# Altium schematic symbol library HW_ADHERENT_SYSCTRL_R1_L1.SchLib: 521 symbols (part 1 of 8)
Pins are listed as number, name and electrical type; pins without a type are passive.

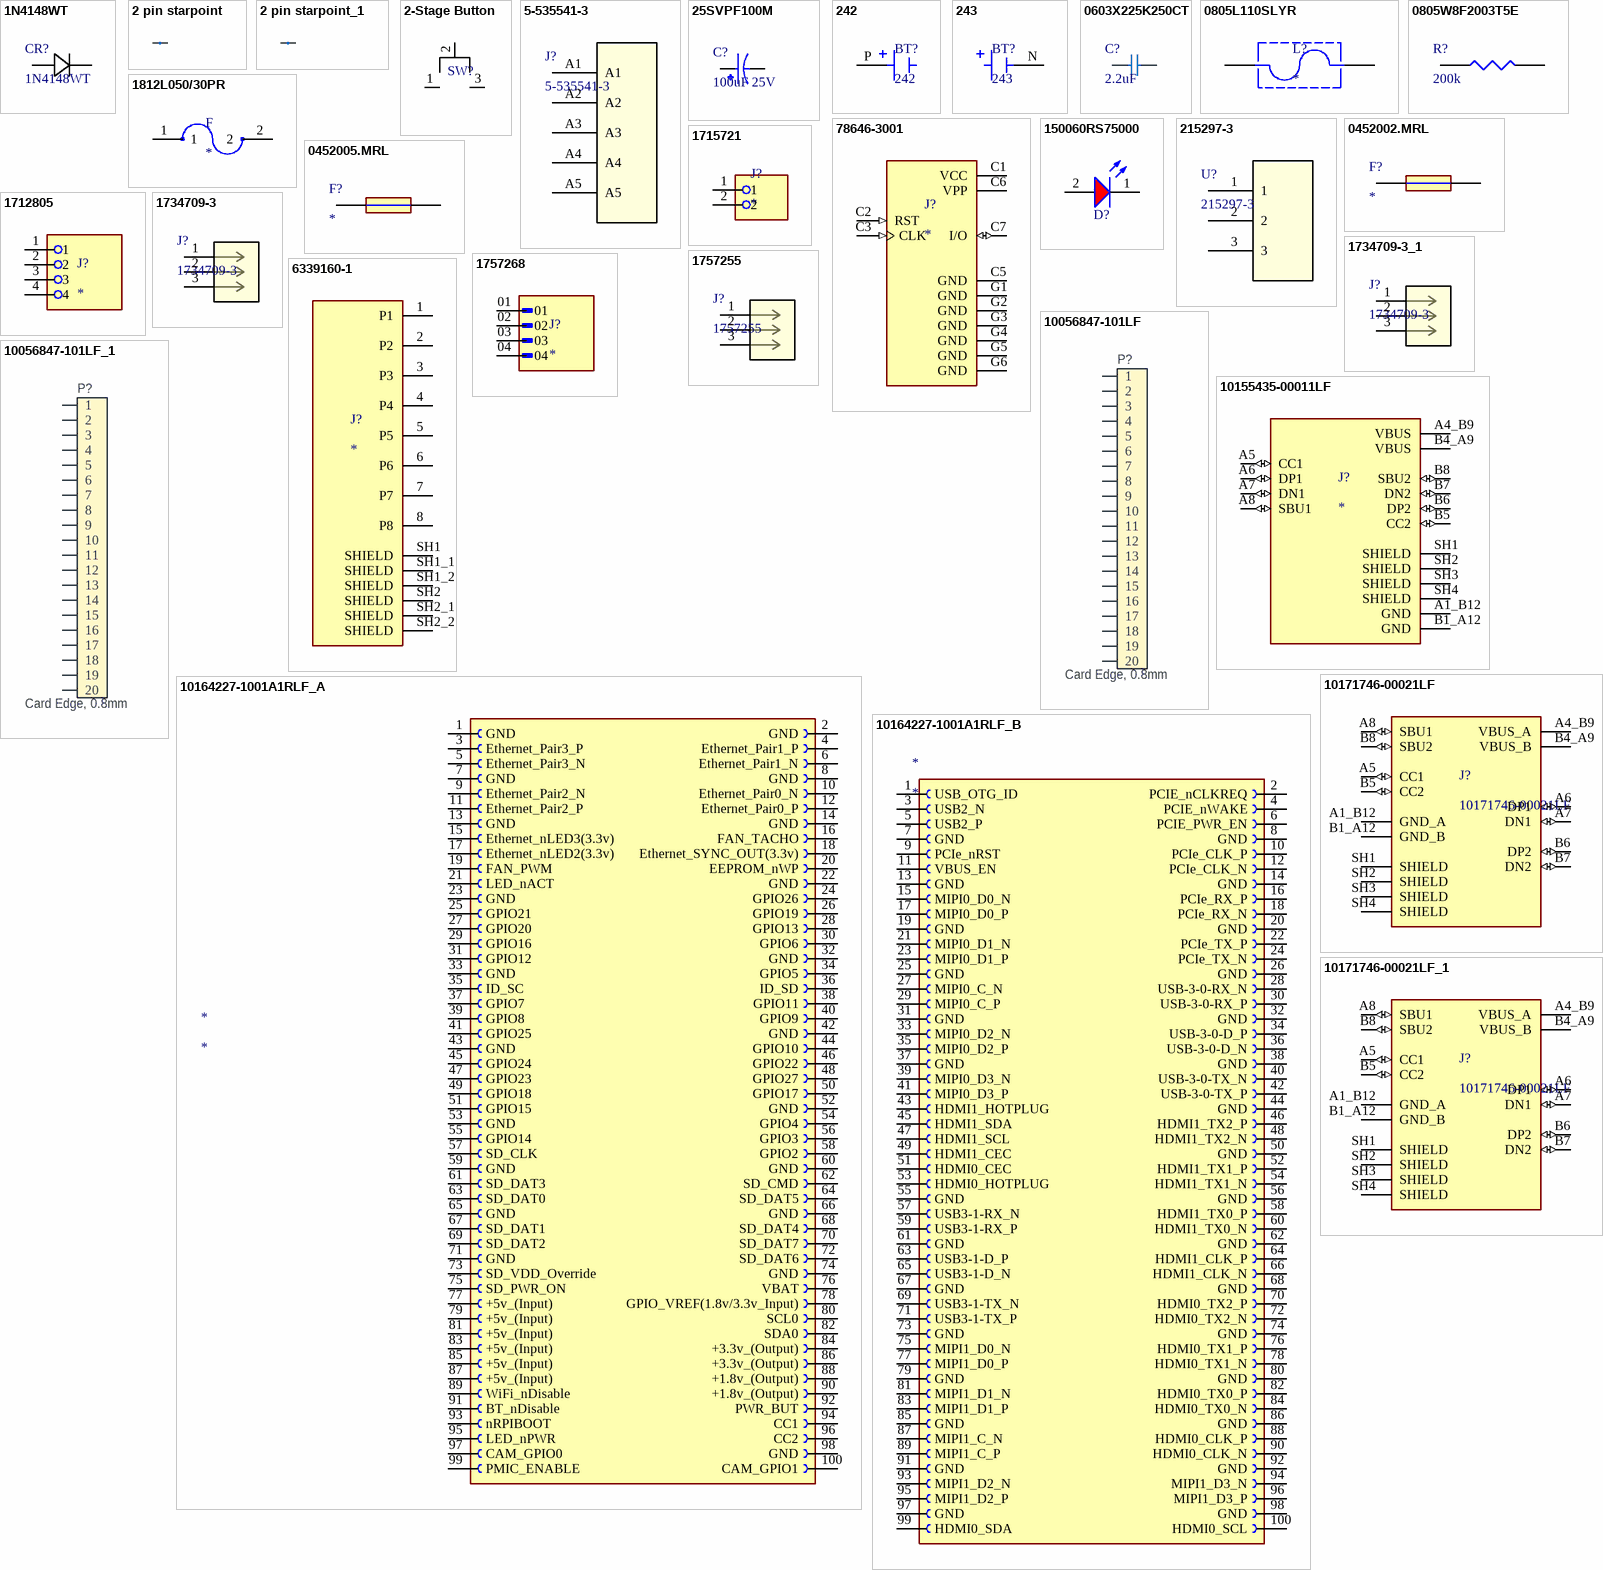
[diagram p0: symbols 1N4148WT to 10171746-00021LF_1]

## 1N4148WT
designator CR?
Diode 75 V 200mA Surface Mount SOD-523F; Manufacturer_Name: onsemi; Copyright: Copyright (C) 2026 Ultra Librarian. All rights reserved.; Manufacturer_Part_Number: 1N4148WT
footprint CR_SOD-523F_ONS
pins: 1, 2

## 2 pin starpoint
designator ST?, comment Net tie  (value not drawn)  (net tie, no BOM)
Starpoint; Part Number: 2 pin starpoint; Manufacturer: N.A.; Part number NEMS: 100500603; Pad Count: 2; Component Status: Active; System: Connector; Manufacturer Part Number: N.A.; ComponentLink1URL: N.A.; ComponentLink1Description: Datasheet; ComponentLink2URL: N.A.; ComponentLink2Description: Supplier link; HelpURL: N.A.; Footprint Doc: N.A.; LatestRevisionDate: 2017-08-31; Published: 2017-08-31; Value: Net tie; Note: Net tie; Supplier 1: N.A.; Supplier Part Number 1: N.A.; Supplier 2: N.A.; Supplier Part Number 2: N.A.; Artikkelnr Noca: N.A.; Part number IPS: N.A.; Author: rsk; Component Class: Connectors; PartId: 100500603; Part number Norautron: N.A.
footprint 2 PIN STARPOINT
pins: 1, 2

## 2 pin starpoint_1
designator ST?, comment Net tie  (value not drawn)  (net tie, no BOM)
Starpoint; Part Number: 2 pin starpoint; Manufacturer: N.A.; Part number NEMS: 100500603; Pad Count: 2; Component Status: Active; System: Connector; Manufacturer Part Number: N.A.; ComponentLink1URL: N.A.; ComponentLink1Description: Datasheet; ComponentLink2URL: N.A.; ComponentLink2Description: Supplier link; HelpURL: N.A.; Footprint Doc: N.A.; LatestRevisionDate: 2017-08-31; Published: 2017-08-31; Value: Net tie; Note: Net tie; Supplier 1: N.A.; Supplier Part Number 1: N.A.; Supplier 2: N.A.; Supplier Part Number 2: N.A.; Artikkelnr Noca: N.A.; Part number IPS: N.A.; Author: rsk; Component Class: Connectors; PartId: 100500603; Part number Norautron: N.A.
footprint 2 PIN STARPOINT
pins: 1, 2

## 2-Stage Button
designator SW?
footprint 2-Stage Button PCB
pins: 1, 2, 3

## 5-535541-3
designator J?
05 MODIV VRT SR CE 100/115; Manufacturer_Name: TE Connectivity; Copyright: Copyright (C) 2025 Ultra Librarian. All rights reserved.; Manufacturer_Part_Number: 5-535541-3; RefDes: RefDes; Type: Type
footprint 5-535541-3_TYC
pins: A1, A2, A3, A4, A5

## 25SVPF100M
designator C?, comment 100uF 25V
100 µF 25 V Aluminum - Polymer Capacitors Radial, Can - SMD 24mOhm 5000 Hrs @ 105°C; Manufacturer: Panasonic Industry; Supplier: Digi; P123675DKR-ND; JLCPCB PART#: C136279
footprint CAP_25SVPF100M
pins: 1, 2

## 242
designator BT?
Coil Spring Contact, Pos; MF: Keystone Electronics; Price: None; MP: 242; SnapEDA_Link: https://www.snapeda.com/parts/242/Keystone+Electronics/view-part/?ref=snap; Package: NON STANDARD-1 Keystone; Availability: In Stock; Check_prices: https://www.snapeda.com/parts/242/Keystone+Electronics/view-part/?ref=eda; Value: *
footprint BAT_242
pins: P POS

## 243
designator BT?
Coil Spring Contact, Neg; MF: Keystone Electronics; MP: 243; Check_prices: https://www.snapeda.com/parts/243/Keystone+Electronics/view-part/?ref=eda; Availability: In Stock; SnapEDA_Link: https://www.snapeda.com/parts/243/Keystone+Electronics/view-part/?ref=snap; Value: *; Price: None; Package: NON STANDARD-1 Keystone
footprint BAT_243
pins: N NEG

## 0603X225K250CT
designator C?, comment 2.2uF
2.2 µF ±10% 25V Ceramic Capacitor X5R 0603 (1608 Metric); Manufacturer: Walsin Technology Corporation; Supplier: Digi; 1292-0603X225K250CTDKR-ND; JLCPCB PART#: C237194
footprint CAPC1608X100N
pins: 1, 2

## 0805L110SLYR
designator L?
Polymeric PTC Resettable Fuse 6V 1.1 A Ih Surface Mount 0805 (2012 Metric), Concave; MF: Littelfuse Inc.; MP: 0805L110SLYR; SnapEDA_Link: https://www.snapeda.com/parts/0805L110SLYR/Littelfuse/view-part/?ref=snap; Package: Package; Value: *; Check_prices: https://www.snapeda.com/parts/0805L110SLYR/Littelfuse/view-part/?ref=eda
footprint 0805L110SLYR
pins: P$1 A, P$2 B

## 0805W8F2003T5E
designator R?, comment 200k
-55℃~+155℃ 125mW 150V 200kΩ Thick Film Resistor ±1% ±100ppm/℃ 0805 Chip Resistor - Surface Mount ROHS
footprint 0805
pins: 1, 2

## 1812L050/30PR
designator F
Polymeric PTC Resettable Fuse 30V 500mA Ih Surface Mount 1812 _4532 Metric_, Concave; MF: Littelfuse Inc.; MP: 1812L050/30PR; SnapEDA_Link: https://www.snapeda.com/parts/1812L050/30PR/Littelfuse%20Inc./view-part/1118385/?ref=snap; Value: *; Availability: Unavailable; Price: None; Package: 1812 Littelfuse
footprint FUSM4632X75
pins: 1, 2

## 78646-3001
designator J?
Horizontal Surface Mount Micro SIM Card Connector, with Push In Termination | Molex Incorporated 78646-3001; SnapEDA_Link: https://www.snapeda.com/parts/78646-3001/Molex/view-part/?ref=snap; Package: None; Value: *; MF: Molex; MP: 78646-3001; Check_prices: https://www.snapeda.com/parts/78646-3001/Molex/view-part/?ref=eda
footprint MOLEX_78646-3001
pins: C1 VCC (power), C2 RST (in), C3 CLK (in), C5 GND (power), C6 VPP (power), C7 I/O (io), G1 GND (power), G2 GND (power), G3 GND (power), G4 GND (power), G5 GND (power), G6 GND (power)

## 150060RS75000
designator D?, comment Red, 2V, 140°  (value not drawn)
WL-SMCW Mono-color Chip LED Waterclear, size 0603, Red, 2V, 140°; Manufacturer Part Number: 150060RS75000; Manufacturer: Wurth Elektronik; Case/Size Code: 0603; Chip Technology: AlInGaP; Dominant Wavelength: 625nm; Luminous Intensity: 250mcd; Peak Wavelength: 630nm; Category: Signal LEDs; Match Code: WL-SMCW; ComponentLink1Description: Website Link; ComponentLink1URL: https://www.we-online.com/redexpert/article/150060RS75000?ad; ComponentLink2Description: Datasheet Link; ComponentLink2URL: https://www.we-online.com/redexpert/spec/150060RS75000?ad; Mount: Surface Mount; Operating Temperature Max: 85°C; Operating Temperature Min: -40°C; Packaging: Tape and Reel; Length: 1.6mm; Width: 0.8mm; Height: 0.7mm; Emitting Color: Red; Forward Voltage: 2V; Viewing Angle: 140°
footprint WL-SMCW_0603_150060xx75000
simulation model 0603_150060RS75000
footprint Model Name (Footprint not found)
footprint WL-SMCW_0805_150080xx75000 (SMD Mono-color Chip LED, body 2.0x1.25mm)
pins: 1 K, 2 A

## 215297-3
designator U?
3P HV100 REC CON. TE, 7.0MM; Manufacturer_Name: TE Connectivity; Copyright: Copyright (C) 2026 Ultra Librarian. All rights reserved.; Manufacturer_Part_Number: 215297-3; Datasheet: https://www.te.com/commerce/DocumentDelivery/DDEController?Action=srchrtrv&DocNm=1773393_AMPMODU_EUROPEAN_STANDARD&DocType=Data+Sheet&DocLang=English&PartCntxt=167020-1&DocFormat=pdf; RefDes: RefDes; Type: Type
footprint 215297-3_TYC
pins: 1, 2, 3

## 0452002.MRL
designator F?
2 A 125 V 125 V Fuse Board Mount (Cartridge Style Excluded) Surface Mount 2-SMD, Square End Block; Manufacturer: Littelfuse Inc.; Supplier: Digi; F2602DKR-ND
footprint FUSC6127X294N
pins: 1, 2

## 0452005.MRL
designator F?
FUSE BRD MNT 5A 125VAC/VDC 2SMD
footprint FUSC6127X294N
pins: 1, 2

## 1712805
designator J?
MP: 1712805; Package: None; Price: None; Value: *; Availability: Unavailable
footprint PHOENIX_1712805
pins: 1, 2, 3, 4

## 1715721
designator J?
MP: 1715721; Package: None; Price: None; Value: *; Availability: Unavailable
footprint PHOENIX_1715721
pins: 1, 2

## 1734709-3
designator J?
1.0 WTB HDR SR RA 3 POS; Manufacturer_Name: TE Connectivity; Copyright: Copyright (C) 2026 Ultra Librarian. All rights reserved.; Manufacturer_Part_Number: 1734709-3; Datasheet: https://www.te.com/commerce/DocumentDelivery/DDEController?Action=srchrtrv&DocNm=108-57264&DocType=Specification+Or+Standard&DocLang=English&PartCntxt=1-1470364-3&DocFormat=pdf; Digi-Key_Part_Number_1: A99956CT-ND; Digi-Key_Part_Number_2: A99956DKR-ND; Digi-Key_Part_Number_3: A99956TR-ND; RefDes: RefDes; Type: Type
footprint CON3_1X3_DRM_HPI_TYC
pins: 1, 2, 3

## 1734709-3_1
designator J?, comment 1734709-3
1.0 WTB HDR SR RA 3 POS; Manufacturer_Name: TE Connectivity; Copyright: Copyright (C) 2026 Ultra Librarian. All rights reserved.; Manufacturer_Part_Number: 1734709-3; Datasheet: https://www.te.com/commerce/DocumentDelivery/DDEController?Action=srchrtrv&DocNm=108-57264&DocType=Specification+Or+Standard&DocLang=English&PartCntxt=1-1470364-3&DocFormat=pdf; Digi-Key_Part_Number_1: A99956CT-ND; Digi-Key_Part_Number_2: A99956DKR-ND; Digi-Key_Part_Number_3: A99956TR-ND; RefDes: RefDes; Type: Type
footprint CON3_1X3_DRM_HPI_TYC
pins: 1, 2, 3

## 1757255
designator J?
PCB headers, nominal cross section: 2.5 mmÂ², color: green, nominal current: 12 A, rated voltage (III/2): 320 V, contact surface: Tin, contact connection type: Pin, number of potentials: 3, number of rows: 1, number of positions: 3, number of connections: 3, product range: MSTBA 2,5/..-G, pitch: 5.08 mm, mounting: Wave soldering, pin layout: Linear pinning, solder pin [P]: 3.5 mm, number of solder pins per potential: 1, plug-in system: COMBICON MSTB 2,5, Pin connector pattern alignment: Standard, locking: without, mounting: without, type of packaging: packed in cardboard; Manufacturer_Name: Phoenix Contact; Copyright: Copyright (C) 2025 Ultra Librarian. All rights reserved.; Manufacturer_Part_Number: 1757255; RefDes: RefDes; Type: Type
footprint CONN_1757255_PXC
pins: 1, 2, 3

## 1757268
designator J?
Pluggable Header 5.08mm 12AWG 320V 12A 4 Position COMBICON MSTBA Series | Phoenix Contact 1757268; SnapEDA_Link: https://www.snapeda.com/parts/1757268/Phoenix+Contact/view-part/?ref=snap; Package: None; Value: *; MF: Phoenix Contact; MP: 1757268; Check_prices: https://www.snapeda.com/parts/1757268/Phoenix+Contact/view-part/?ref=eda
footprint PHOENIX_1757268
pins: 01, 02, 03, 04

## 6339160-1
designator J?
Mod Jack; Right Angle; 8 Position; Surface Mount; Cat 3; Shielded | TE Connectivity 6339160-1; SnapEDA_Link: https://www.snapeda.com/parts/6339160-1/TE+Connectivity+AMP+Connectors/view-part/?ref=snap; Package: None; Value: *; MF: TE Connectivity; MP: 6339160-1; Check_prices: https://www.snapeda.com/parts/6339160-1/TE+Connectivity+AMP+Connectors/view-part/?ref=eda
footprint TE_6339160-1
pins: 1 P1, 2 P2, 3 P3, 4 P4, 5 P5, 6 P6, 7 P7, 8 P8, SH1 SHIELD, SH1_1 SHIELD, SH1_2 SHIELD, SH2 SHIELD, SH2_1 SHIELD, SH2_2 SHIELD

## 10056847-101LF
designator P?, comment Card Edge, 0.8mm
0.8mm pitch, dual edge, right angle, SMD, card edge connector; Part Number: 10056847-101LF; Manufacturer: FCI; Part number NEMS: 100500633; Note: N.A.; Pad Count: 20; Component Status: Active; Manufacturer Part Number: 10056847-101LF; ComponentLink1URL: https://www.amphenol-icc.com/media/wysiwyg/files/drawing/10056847.pdf; ComponentLink1Description: Datasheet; ComponentLink2URL: N.A.; ComponentLink2Description: Supplier link; HelpURL: N.A.; Footprint Doc: 10056847-101LF; LatestRevisionDate: 2018-05-07; Published: 2018-05-07; Value: Card Edge, 0.8mm; Supplier 1: Digi-Key; Supplier Part Number 1: 609-4943-1-ND; Supplier 2: N.A.; Supplier Part Number 2: N.A.; Artikkelnr Noca: N.A.; Part number IPS: N.A.; Component Class: Connectors; PartId: 100500633; Author: rsk; Part number Norautron: N.A.; System: Connector
footprint 10056847-101LF
pins: 1, 2, 3, 4, 5, 6, 7, 8, 9, 10, 11, 12, 13, 14, 15, 16, 17, 18, 19, 20
1 alternate drawing of the same symbol

## 10056847-101LF_1
designator P?, comment Card Edge, 0.8mm
0.8mm pitch, dual edge, right angle, SMD, card edge connector; Part Number: 10056847-101LF; Manufacturer: FCI; Part number NEMS: 100500633; Note: N.A.; Pad Count: 20; Component Status: Active; Manufacturer Part Number: 10056847-101LF; ComponentLink1URL: https://www.amphenol-icc.com/media/wysiwyg/files/drawing/10056847.pdf; ComponentLink1Description: Datasheet; ComponentLink2URL: N.A.; ComponentLink2Description: Supplier link; HelpURL: N.A.; Footprint Doc: 10056847-101LF; LatestRevisionDate: 2018-05-07; Published: 2018-05-07; Value: Card Edge, 0.8mm; Supplier 1: Digi-Key; Supplier Part Number 1: 609-4943-1-ND; Supplier 2: N.A.; Supplier Part Number 2: N.A.; Artikkelnr Noca: N.A.; Part number IPS: N.A.; Component Class: Connectors; PartId: 100500633; Author: rsk; Part number Norautron: N.A.; System: Connector
footprint 10056847-101LF
pins: 1, 2, 3, 4, 5, 6, 7, 8, 9, 10, 11, 12, 13, 14, 15, 16, 17, 18, 19, 20
1 alternate drawing of the same symbol

## 10155435-00011LF
designator J?
MP: 10155435-00011LF; Package: None; Price: None; Value: *; Availability: Unavailable
footprint AMPHENOL_10155435-00011LF
pins: A1_B12 GND (power), A4_B9 VBUS (power), A5 CC1 (io), A6 DP1 (io), A7 DN1 (io), A8 SBU1 (io), B1_A12 GND (power), B4_A9 VBUS (power), B5 CC2 (io), B6 DP2 (io), B7 DN2 (io), B8 SBU2 (io), SH1 SHIELD, SH2 SHIELD, SH3 SHIELD, SH4 SHIELD

## 10164227-1001A1RLF_A
designator *
footprint AMPHENOL_10164227-1001A1RLF
pins: 1 GND, 2 GND, 3 Ethernet_Pair3_P, 4 Ethernet_Pair1_P, 5 Ethernet_Pair3_N, 6 Ethernet_Pair1_N, 7 GND, 8 GND, 9 Ethernet_Pair2_N, 10 Ethernet_Pair0_N, 11 Ethernet_Pair2_P, 12 Ethernet_Pair0_P, 13 GND, 14 GND, 15 Ethernet_nLED3(3.3v), 16 FAN_TACHO, 17 Ethernet_nLED2(3.3v), 18 Ethernet_SYNC_OUT(3.3v), 19 FAN_PWM, 20 EEPROM_nWP, 21 LED_nACT, 22 GND, 23 GND, 24 GPIO26, 25 GPIO21, 26 GPIO19, 27 GPIO20, 28 GPIO13, 29 GPIO16, 30 GPIO6, 31 GPIO12, 32 GND, 33 GND, 34 GPIO5, 35 ID_SC, 36 ID_SD, 37 GPIO7, 38 GPIO11, 39 GPIO8, 40 GPIO9, 41 GPIO25, 42 GND, 43 GND, 44 GPIO10, 45 GPIO24, 46 GPIO22, 47 GPIO23, 48 GPIO27, 49 GPIO18, 50 GPIO17, 51 GPIO15, 52 GND, 53 GND, 54 GPIO4, 55 GPIO14, 56 GPIO3, 57 SD_CLK, 58 GPIO2, 59 GND, 60 GND, 61 SD_DAT3, 62 SD_CMD, 63 SD_DAT0, 64 SD_DAT5, 65 GND, 66 GND, 67 SD_DAT1, 68 SD_DAT4, 69 SD_DAT2, 70 SD_DAT7, 71 GND, 72 SD_DAT6, 73 SD_VDD_Override, 74 GND, 75 SD_PWR_ON, 76 VBAT, 77 +5v_(Input), 78 GPIO_VREF(1.8v/3.3v_Input), 79 +5v_(Input), 80 SCL0, 81 +5v_(Input), 82 SDA0, 83 +5v_(Input), 84 +3.3v_(Output), 85 +5v_(Input), 86 +3.3v_(Output), 87 +5v_(Input), 88 +1.8v_(Output), 89 WiFi_nDisable, 90 +1.8v_(Output), 91 BT_nDisable, 92 PWR_BUT, 93 nRPIBOOT, 94 CC1, 95 LED_nPWR, 96 CC2, 97 CAM_GPIO0, 98 GND, 99 PMIC_ENABLE, 100 CAM_GPIO1

## 10164227-1001A1RLF_B
designator *
footprint AMPHENOL_10164227-1001A1RLF
pins: 1 USB_OTG_ID, 2 PCIE_nCLKREQ, 3 USB2_N, 4 PCIE_nWAKE, 5 USB2_P, 6 PCIE_PWR_EN, 7 GND, 8 GND, 9 PCIe_nRST, 10 PCIe_CLK_P, 11 VBUS_EN, 12 PCIe_CLK_N, 13 GND, 14 GND, 15 MIPI0_D0_N, 16 PCIe_RX_P, 17 MIPI0_D0_P, 18 PCIe_RX_N, 19 GND, 20 GND, 21 MIPI0_D1_N, 22 PCIe_TX_P, 23 MIPI0_D1_P, 24 PCIe_TX_N, 25 GND, 26 GND, 27 MIPI0_C_N, 28 USB-3-0-RX_N, 29 MIPI0_C_P, 30 USB-3-0-RX_P, 31 GND, 32 GND, 33 MIPI0_D2_N, 34 USB-3-0-D_P, 35 MIPI0_D2_P, 36 USB-3-0-D_N, 37 GND, 38 GND, 39 MIPI0_D3_N, 40 USB-3-0-TX_N, 41 MIPI0_D3_P, 42 USB-3-0-TX_P, 43 HDMI1_HOTPLUG, 44 GND, 45 HDMI1_SDA, 46 HDMI1_TX2_P, 47 HDMI1_SCL, 48 HDMI1_TX2_N, 49 HDMI1_CEC, 50 GND, 51 HDMI0_CEC, 52 HDMI1_TX1_P, 53 HDMI0_HOTPLUG, 54 HDMI1_TX1_N, 55 GND, 56 GND, 57 USB3-1-RX_N, 58 HDMI1_TX0_P, 59 USB3-1-RX_P, 60 HDMI1_TX0_N, 61 GND, 62 GND, 63 USB3-1-D_P, 64 HDMI1_CLK_P, 65 USB3-1-D_N, 66 HDMI1_CLK_N, 67 GND, 68 GND, 69 USB3-1-TX_N, 70 HDMI0_TX2_P, 71 USB3-1-TX_P, 72 HDMI0_TX2_N, 73 GND, 74 GND, 75 MIPI1_D0_N, 76 HDMI0_TX1_P, 77 MIPI1_D0_P, 78 HDMI0_TX1_N, 79 GND, 80 GND, 81 MIPI1_D1_N, 82 HDMI0_TX0_P, 83 MIPI1_D1_P, 84 HDMI0_TX0_N, 85 GND, 86 GND, 87 MIPI1_C_N, 88 HDMI0_CLK_P, 89 MIPI1_C_P, 90 HDMI0_CLK_N, 91 GND, 92 GND, 93 MIPI1_D2_N, 94 MIPI1_D3_N, 95 MIPI1_D2_P, 96 MIPI1_D3_P, 97 GND, 98 GND, 99 HDMI0_SDA, 100 HDMI0_SCL

## 10171746-00021LF
designator J?
USB-C (USB TYPE-C) USB 2.0 Receptacle Connector 24 (6+18 Dummy) Position Surface Mount, Right Angle; Through Hole; MF: Amphenol; SnapEDA_Link: https://www.snapeda.com/parts/10171746-00021LF/Amphenol/view-part/?ref=snap; Package: None; Value: *; MP: 10171746-00021LF; Check_prices: https://www.snapeda.com/parts/10171746-00021LF/Amphenol/view-part/?ref=eda
footprint AMPHENOL_10171746-00021LF
pins: A1_B12 GND_A (power), A4_B9 VBUS_A (power), A5 CC1 (io), A6 DP1 (io), A7 DN1 (io), A8 SBU1 (io), B1_A12 GND_B (power), B4_A9 VBUS_B (power), B5 CC2 (io), B6 DP2 (io), B7 DN2 (io), B8 SBU2 (io), SH1 SHIELD, SH2 SHIELD, SH3 SHIELD, SH4 SHIELD

## 10171746-00021LF_1
designator J?, comment 10171746-00021LF
USB-C (USB TYPE-C) USB 2.0 Receptacle Connector 24 (6+18 Dummy) Position Surface Mount, Right Angle; Through Hole; MF: Amphenol; SnapEDA_Link: https://www.snapeda.com/parts/10171746-00021LF/Amphenol/view-part/?ref=snap; Package: None; Value: *; MP: 10171746-00021LF; Check_prices: https://www.snapeda.com/parts/10171746-00021LF/Amphenol/view-part/?ref=eda
footprint AMPHENOL_10171746-00021LF
pins: A1_B12 GND_A (power), A4_B9 VBUS_A (power), A5 CC1 (io), A6 DP1 (io), A7 DN1 (io), A8 SBU1 (io), B1_A12 GND_B (power), B4_A9 VBUS_B (power), B5 CC2 (io), B6 DP2 (io), B7 DN2 (io), B8 SBU2 (io), SH1 SHIELD, SH2 SHIELD, SH3 SHIELD, SH4 SHIELD

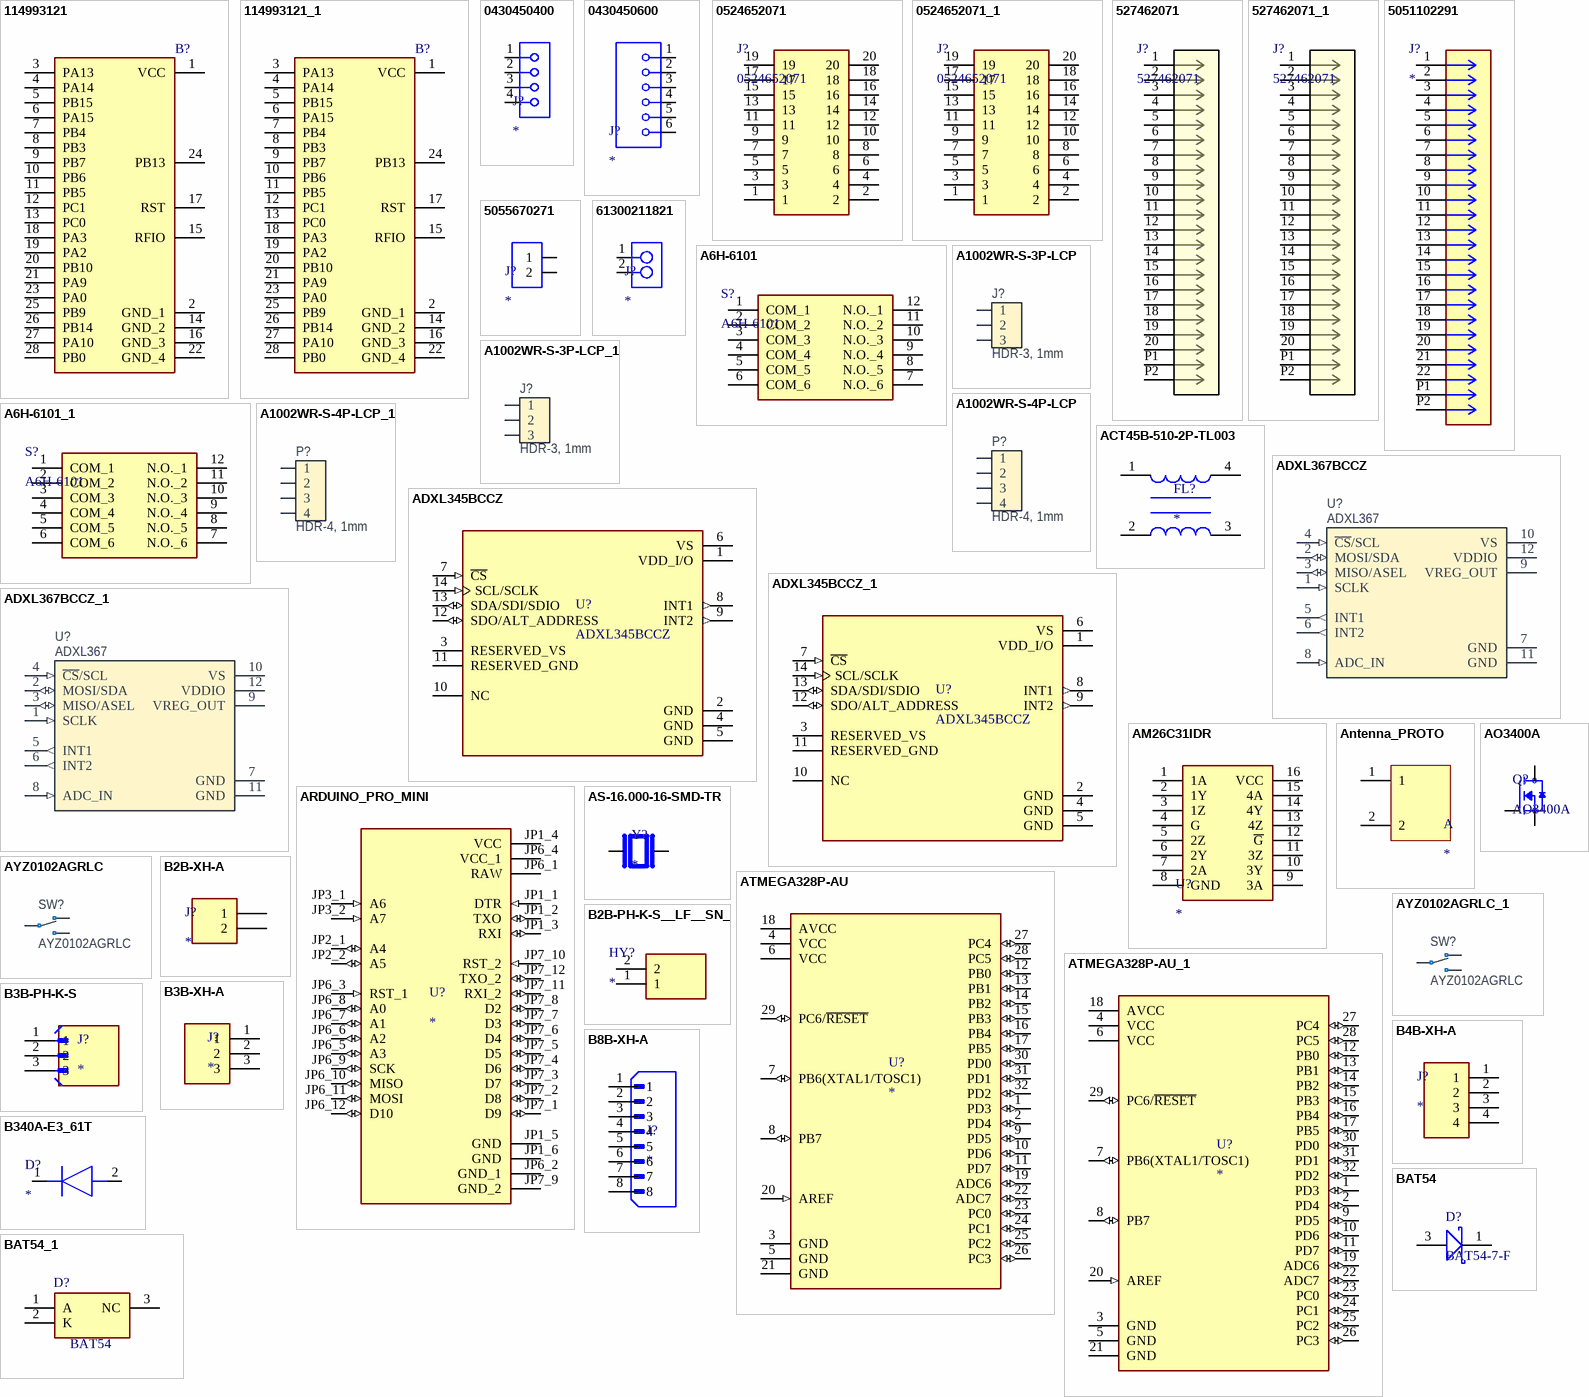
[diagram p1: symbols 114993121 to BAT54_1]

## 114993121
designator B?  (value not drawn)
General ISM < 1GHz LoRaWAN Transceiver Module 868MHz, 915MHz Antenna Not Included Surface Mount; Manufacturer_Name: Seeed Studio; Geometry.Height: 2.7mm; Mouser Part Number: 713-114993121; Mouser Price/Stock: https://www.mouser.co.uk/ProductDetail/Seeed-Studio/114993121?qs=QpmGXVUTftF1SD6oRXq2Mw%3D%3D; Manufacturer_Part_Number: 114993121; Datasheet Link: https://files.seeedstudio.com/products/114993120/Wio-E5-LE%20module%20datasheet_v1.0.pdf
footprint 114993121
pins: 1 VCC, 2 GND_1, 3 PA13, 4 PA14, 5 PB15, 6 PA15, 7 PB4, 8 PB3, 9 PB7, 10 PB6, 11 PB5, 12 PC1, 13 PC0, 14 GND_2, 15 RFIO, 16 GND_3, 17 RST, 18 PA3, 19 PA2, 20 PB10, 21 PA9, 22 GND_4, 23 PA0, 24 PB13, 25 PB9, 26 PB14, 27 PA10, 28 PB0

## 114993121_1
designator B?, comment 114993121  (value not drawn)
General ISM < 1GHz LoRaWAN Transceiver Module 868MHz, 915MHz Antenna Not Included Surface Mount; Manufacturer_Name: Seeed Studio; Geometry.Height: 2.7mm; Mouser Part Number: 713-114993121; Mouser Price/Stock: https://www.mouser.co.uk/ProductDetail/Seeed-Studio/114993121?qs=QpmGXVUTftF1SD6oRXq2Mw%3D%3D; Manufacturer_Part_Number: 114993121; Datasheet Link: https://files.seeedstudio.com/products/114993120/Wio-E5-LE%20module%20datasheet_v1.0.pdf
footprint 114993121
pins: 1 VCC, 2 GND_1, 3 PA13, 4 PA14, 5 PB15, 6 PA15, 7 PB4, 8 PB3, 9 PB7, 10 PB6, 11 PB5, 12 PC1, 13 PC0, 14 GND_2, 15 RFIO, 16 GND_3, 17 RST, 18 PA3, 19 PA2, 20 PB10, 21 PA9, 22 GND_4, 23 PA0, 24 PB13, 25 PB9, 26 PB14, 27 PA10, 28 PB0

## 0430450400
designator J?
Connector Header Through Hole, Right Angle 4 position 0.118" (3.00mm); Manifacturer: MOLEX; Supplier: Digi; WM1814-ND
footprint CONN_SD-43045-001_04_MOL
pins: 1, 2, 3, 4

## 0430450600
designator J?
Connector Header Through Hole, Right Angle 6 position 0.118" (3.00mm); Manufacturer: Molex; Supplier: Digi; WM1815-ND
footprint CONN_SD-43045-001_06_MOL
pins: 1, 2, 3, 4, 5, 6

## 0524652071
designator J?
20 Position Connector Receptacle, Center Strip Contacts Surface Mount Tin; Manufacturer_Name: Molex; Datasheet Link: https://www.molex.com/en-us/products/part-detail-pdf/524652071?display=pdf; Height: 3.55mm; Manufacturer_Part_Number: 0524652071; Mouser Part Number: N/A; Mouser Price/Stock: https://www.mouser.co.uk/ProductDetail/Molex/0524652071?qs=PBcRNPEHKsqzswLJvL7gXQ%3D%3D; Arrow Part Number: 0524652071; Arrow Price/Stock: https://www.arrow.com/en/products/0524652071/molex?region=europe
footprint 0524652071
pins: 1, 2, 3, 4, 5, 6, 7, 8, 9, 10, 11, 12, 13, 14, 15, 16, 17, 18, 19, 20

## 0524652071_1
designator J?, comment 0524652071
20 Position Connector Receptacle, Center Strip Contacts Surface Mount Tin; Manufacturer_Name: Molex; Datasheet Link: https://www.molex.com/en-us/products/part-detail-pdf/524652071?display=pdf; Height: 3.55mm; Manufacturer_Part_Number: 0524652071; Mouser Part Number: N/A; Mouser Price/Stock: https://www.mouser.co.uk/ProductDetail/Molex/0524652071?qs=PBcRNPEHKsqzswLJvL7gXQ%3D%3D; Arrow Part Number: 0524652071; Arrow Price/Stock: https://www.arrow.com/en/products/0524652071/molex?region=europe
footprint 0524652071
pins: 1, 2, 3, 4, 5, 6, 7, 8, 9, 10, 11, 12, 13, 14, 15, 16, 17, 18, 19, 20

## 527462071
designator J?
Easy-On FFC/FPC Connector, 0.50mm Pitch, Slider Series, Right-Angle, Bottom Contact, 2.00mm Height, 20 Circuits, Gold Plating; Manufacturer_Name: Molex Connector Corporation; Copyright: Copyright (C) 2025 Ultra Librarian. All rights reserved.; Manufacturer_Part_Number: 527462071; RefDes: RefDes; Type: Type
footprint CON_527462071_MOL
pins: 1, 2, 3, 4, 5, 6, 7, 8, 9, 10, 11, 12, 13, 14, 15, 16, 17, 18, 19, 20, P1, P2

## 527462071_1
designator J?, comment 527462071
Easy-On FFC/FPC Connector, 0.50mm Pitch, Slider Series, Right-Angle, Bottom Contact, 2.00mm Height, 20 Circuits, Gold Plating; Manufacturer_Name: Molex Connector Corporation; Copyright: Copyright (C) 2025 Ultra Librarian. All rights reserved.; Manufacturer_Part_Number: 527462071; RefDes: RefDes; Type: Type
footprint CON_527462071_MOL
pins: 1, 2, 3, 4, 5, 6, 7, 8, 9, 10, 11, 12, 13, 14, 15, 16, 17, 18, 19, 20, P1, P2

## 5051102291
designator J?
22 Position FFC, FPC Connector Contacts, Bottom 0.020" (0.50mm) Surface Mount, Right Angle; MF: Molex; MP: 5051102291; Package: None; Price: None; Value: *; SnapEDA_Link: https://www.snapeda.com/parts/5051102291/Molex/view-part/?ref=snap; Availability: Unavailable; Check_prices: https://www.snapeda.com/parts/5051102291/Molex/view-part/?ref=eda
footprint CON_5051102291_MOL
pins: 1, 2, 3, 4, 5, 6, 7, 8, 9, 10, 11, 12, 13, 14, 15, 16, 17, 18, 19, 20, 21, 22, P1, P2

## 5055670271
designator J?
Connector Header Surface Mount, Right Angle 2 position 0.049" (1.25mm); Manufacturer: Molex; Supplier: Digi; WM17038DKR-ND
footprint CONN_505567_02_MOL
pins: 1, 2

## 61300211821
designator J?
2 Position Receptacle Connector 0.100" (2.54mm) Through Hole Gold; Manifacturer: Würth Elektronik; Supplier: Digi; 732-61300211821-ND
footprint 61300211821
pins: 1, 2

## A6H-6101
designator S?
Dip Switch SPST 6 Position Surface Mount Slide (Standard) Actuator 25mA 24VDC; Manufacturer_Name: OMRON Electronics; Datasheet Link: https://components.omron.com/us-en/sites/components.omron.com.us/files/datasheet_pdf/A117-E1.pdf; Manufacturer_Part_Number: A6H-6101; Mouser Part Number: 653-A6H-6101; Mouser Price/Stock: https://www.mouser.co.uk/ProductDetail/Omron-Electronics/A6H-6101?qs=HDDQUw%2F3PhptqbHjvn4x5A%3D%3D; Arrow Part Number: A6H-6101; Arrow Price/Stock: https://www.arrow.com/en/products/a6h-6101/omron?region=nac
footprint A6H6101
pins: 1 COM_1, 2 COM_2, 3 COM_3, 4 COM_4, 5 COM_5, 6 COM_6, 7 N.O._6, 8 N.O._5, 9 N.O._4, 10 N.O._3, 11 N.O._2, 12 N.O._1

## A6H-6101_1
designator S?, comment A6H-6101
Dip Switch SPST 6 Position Surface Mount Slide (Standard) Actuator 25mA 24VDC; Manufacturer_Name: OMRON Electronics; Datasheet Link: https://components.omron.com/us-en/sites/components.omron.com.us/files/datasheet_pdf/A117-E1.pdf; Manufacturer_Part_Number: A6H-6101; Mouser Part Number: 653-A6H-6101; Mouser Price/Stock: https://www.mouser.co.uk/ProductDetail/Omron-Electronics/A6H-6101?qs=HDDQUw%2F3PhptqbHjvn4x5A%3D%3D; Arrow Part Number: A6H-6101; Arrow Price/Stock: https://www.arrow.com/en/products/a6h-6101/omron?region=nac
footprint A6H6101
pins: 1 COM_1, 2 COM_2, 3 COM_3, 4 COM_4, 5 COM_5, 6 COM_6, 7 N.O._6, 8 N.O._5, 9 N.O._4, 10 N.O._3, 11 N.O._2, 12 N.O._1

## A1002WR-S-3P-LCP
designator J?, comment HDR-3, 1mm
1.0mm pitch connector side entry SMD; Part Number: A1002WR-S-3P-LCP; Manufacturer: CJT; Part number NEMS: 100500605; Note: N.A.; Pad Count: 3; Component Status: Active; Manufacturer Part Number: A1002WR-S-3P-LCP; Footprint Doc: A1002WR-S-3P-LCP; LatestRevisionDate: 2024-10-16; Published: 2024-10-16; Value: HDR-3, 1mm; Artikkelnr Noca: N.A.; Part number IPS: N.A.; ComponentLink1URL: https://cjt.com/up/A1002WR-S-XP-LCP_dwg.pdf; ComponentLink1Description: Datasheet; ComponentLink2URL: N.A.; ComponentLink2Description: Supplier link; HelpURL: https://cjt.com/en/pd541295.html; Supplier 1: Cabcon; Supplier Part Number 1: A1002WR-S-3P-LCP; Supplier 2: N.A.; Supplier Part Number 2: N.A.; Author: rubr; Component Class: Connectors; PartId: 100500885; Part number Norautron: N.A.; System: Connector
footprint SM03B-SRSS-TB
pins: 1, 2, 3

## A1002WR-S-3P-LCP_1
designator J?, comment HDR-3, 1mm
1.0mm pitch connector side entry SMD; Part Number: A1002WR-S-3P-LCP; Manufacturer: CJT; Part number NEMS: 100500605; Note: N.A.; Pad Count: 3; Component Status: Active; Manufacturer Part Number: A1002WR-S-3P-LCP; Footprint Doc: A1002WR-S-3P-LCP; LatestRevisionDate: 2024-10-16; Published: 2024-10-16; Value: HDR-3, 1mm; Artikkelnr Noca: N.A.; Part number IPS: N.A.; ComponentLink1URL: https://cjt.com/up/A1002WR-S-XP-LCP_dwg.pdf; ComponentLink1Description: Datasheet; ComponentLink2URL: N.A.; ComponentLink2Description: Supplier link; HelpURL: https://cjt.com/en/pd541295.html; Supplier 1: Cabcon; Supplier Part Number 1: A1002WR-S-3P-LCP; Supplier 2: N.A.; Supplier Part Number 2: N.A.; Author: rubr; Component Class: Connectors; PartId: 100500885; Part number Norautron: N.A.; System: Connector
footprint SM03B-SRSS-TB
pins: 1, 2, 3

## A1002WR-S-4P-LCP
designator P?, comment HDR-4, 1mm
1.0mm pitch connector side entry SMD; Part Number: A1002WR-S-4P-LCP; Manufacturer: CJT; Part number NEMS: 100500540; Note: N.A.; Pad Count: 4; Component Status: Active; Manufacturer Part Number: A1002WR-S-4P-LCP; ComponentLink1URL: https://cjt.com/up/A1002WR-S-XP-LCP_dwg.pdf; ComponentLink1Description: Datasheet; ComponentLink2URL: N.A.; ComponentLink2Description: Supplier link; HelpURL: https://cjt.com/en/pd541296.html; Footprint Doc: A1002WR-S-4P-LCP; LatestRevisionDate: 2024-10-16; Published: 2024-10-16; Value: HDR-4, 1mm; Supplier 1: Cabcon; Supplier Part Number 1: A1002WR-S-4P-LCP; Supplier 2: N.A.; Supplier Part Number 2: N.A.; Artikkelnr Noca: N.A.; Part number IPS: N.A.; Component Class: Connectors; PartId: 100500886; Author: rubr; Part number Norautron: N.A.; System: Connector
footprint SM04B-SRSS-TB
pins: 1, 2, 3, 4
1 alternate drawing of the same symbol

## A1002WR-S-4P-LCP_1
designator P?, comment HDR-4, 1mm
1.0mm pitch connector side entry SMD; Part Number: A1002WR-S-4P-LCP; Manufacturer: CJT; Part number NEMS: 100500540; Note: N.A.; Pad Count: 4; Component Status: Active; Manufacturer Part Number: A1002WR-S-4P-LCP; ComponentLink1URL: https://cjt.com/up/A1002WR-S-XP-LCP_dwg.pdf; ComponentLink1Description: Datasheet; ComponentLink2URL: N.A.; ComponentLink2Description: Supplier link; HelpURL: https://cjt.com/en/pd541296.html; Footprint Doc: A1002WR-S-4P-LCP; LatestRevisionDate: 2024-10-16; Published: 2024-10-16; Value: HDR-4, 1mm; Supplier 1: Cabcon; Supplier Part Number 1: A1002WR-S-4P-LCP; Supplier 2: N.A.; Supplier Part Number 2: N.A.; Artikkelnr Noca: N.A.; Part number IPS: N.A.; Component Class: Connectors; PartId: 100500886; Author: rubr; Part number Norautron: N.A.; System: Connector
footprint SM04B-SRSS-TB
pins: 1, 2, 3, 4
1 alternate drawing of the same symbol

## ACT45B-510-2P-TL003
designator FL?
51 ÂµH @ 100 kHz 2 Line Common Mode Choke Surface Mount 2.8 kOhms @ 10 MHz 200mA DCR 1Ohm; MF: TDK; MP: ACT45B-510-2P-TL003; SnapEDA_Link: https://www.snapeda.com/parts/ACT45B-510-2P-TL003/TDK/view-part/?ref=snap; Package: Horizontal-4 TDK; Value: *; Check_prices: https://www.snapeda.com/parts/ACT45B-510-2P-TL003/TDK/view-part/?ref=eda
footprint FIL_ACT45B-510-2P-TL003
pins: 1, 2, 3, 4

## ADXL345BCCZ
designator U?
Accelerometer X, Y, Z Axis ±2g, 4g, 8g, 16g 0.05Hz ~ 1.6kHz 14-LGA (3x5); MF: Analog Devices; SnapEDA_Link: https://www.snapeda.com/parts/ADXL345BCCZ/Analog+Devices/view-part/?ref=snap; Package: LGA -14 Analog Devices; Value: *; MP: ADXL345BCCZ; Check_prices: https://www.snapeda.com/parts/ADXL345BCCZ/Analog+Devices/view-part/?ref=eda
footprint IC_ADXL345BCCZ
pins: 1 VDD_I/O (power), 2 GND (power), 3 RESERVED_VS, 4 GND (power), 5 GND (power), 6 VS (power), 7 ~{CS} (in), 8 INT1 (out), 9 INT2 (out), 10 NC, 11 RESERVED_GND, 12 SDO/ALT_ADDRESS (io), 13 SDA/SDI/SDIO (io), 14 SCL/SCLK (in)

## ADXL345BCCZ_1
designator U?, comment ADXL345BCCZ
Accelerometer X, Y, Z Axis ±2g, 4g, 8g, 16g 0.05Hz ~ 1.6kHz 14-LGA (3x5); MF: Analog Devices; SnapEDA_Link: https://www.snapeda.com/parts/ADXL345BCCZ/Analog+Devices/view-part/?ref=snap; Package: LGA -14 Analog Devices; Value: *; MP: ADXL345BCCZ; Check_prices: https://www.snapeda.com/parts/ADXL345BCCZ/Analog+Devices/view-part/?ref=eda
footprint IC_ADXL345BCCZ
pins: 1 VDD_I/O (power), 2 GND (power), 3 RESERVED_VS, 4 GND (power), 5 GND (power), 6 VS (power), 7 ~{CS} (in), 8 INT1 (out), 9 INT2 (out), 10 NC, 11 RESERVED_GND, 12 SDO/ALT_ADDRESS (io), 13 SDA/SDI/SDIO (io), 14 SCL/SCLK (in)

## ADXL367BCCZ
designator U?, comment ADXL367
Micropower, 3-Axis, ±2 g/±4 g/±8 g Digital Output MEMS Accelerometer; Part Number: ADXL367BCCZ; Manufacturer: Analog Devices; Part number NEMS: 101900775; Note: N.A.; Component Status: Active; Pad Count: 12; Manufacturer Part Number: ADXL367BCCZ; ComponentLink1URL: http://www.analog.com/media/en/technical-documentation/data-sheets/ADXL367.pdf; ComponentLink1Description: Datasheet; ComponentLink2URL: https://www.digikey.com/en/products/detail/analog-devices-inc/ADXL367BCCZ-RL7/16360579; ComponentLink2Description: Supplier link; HelpURL: http://www.analog.com/en/products/ADXL367.html; Footprint Doc: LGA-12; LatestRevisionDate: 2023-04-03; Published: 2023-04-03; Value: ADXL367; Supplier 1: Digi-Key; Supplier Part Number 1: 505-ADXL367BCCZ-RL7CT-ND; Supplier 2: Mouser; Supplier Part Number 2: 584-ADXL367BCCZ-RL7; Artikkelnr Noca: N.A.; Part number IPS: N.A.; Component Class: Misc_ICs; Author: rubr; Part number Norautron: N.A.; PartId: 101900775
footprint LGA50P220X230X97-12N
pins: 1 SCLK (in), 2 MOSI/SDA (io), 3 MISO/ASEL (io), 4 ~{CS}/SCL (in), 5 INT1 (out), 6 INT2 (out), 7 GND (power), 8 ADC_IN (in), 9 VREG_OUT (power), 10 VS (power), 11 GND (power), 12 VDDIO (power)

## ADXL367BCCZ_1
designator U?, comment ADXL367
Micropower, 3-Axis, ±2 g/±4 g/±8 g Digital Output MEMS Accelerometer; Part Number: ADXL367BCCZ; Manufacturer: Analog Devices; Part number NEMS: 101900775; Note: N.A.; Component Status: Active; Pad Count: 12; Manufacturer Part Number: ADXL367BCCZ; ComponentLink1URL: http://www.analog.com/media/en/technical-documentation/data-sheets/ADXL367.pdf; ComponentLink1Description: Datasheet; ComponentLink2URL: https://www.digikey.com/en/products/detail/analog-devices-inc/ADXL367BCCZ-RL7/16360579; ComponentLink2Description: Supplier link; HelpURL: http://www.analog.com/en/products/ADXL367.html; Footprint Doc: LGA-12; LatestRevisionDate: 2023-04-03; Published: 2023-04-03; Value: ADXL367; Supplier 1: Digi-Key; Supplier Part Number 1: 505-ADXL367BCCZ-RL7CT-ND; Supplier 2: Mouser; Supplier Part Number 2: 584-ADXL367BCCZ-RL7; Artikkelnr Noca: N.A.; Part number IPS: N.A.; Component Class: Misc_ICs; Author: rubr; Part number Norautron: N.A.; PartId: 101900775
footprint LGA50P220X230X97-12N
pins: 1 SCLK (in), 2 MOSI/SDA (io), 3 MISO/ASEL (io), 4 ~{CS}/SCL (in), 5 INT1 (out), 6 INT2 (out), 7 GND (power), 8 ADC_IN (in), 9 VREG_OUT (power), 10 VS (power), 11 GND (power), 12 VDDIO (power)

## AM26C31IDR
designator U?
4/0 Driver 16-SOIC; Manufacturer: Texas Instruments; Supplier: Digi; 296-24344-6-ND
footprint SOIC127P600X175-16N
pins: 1 1A, 2 1Y, 3 1Z, 4 G, 5 2Z, 6 2Y, 7 2A, 8 GND, 9 3A, 10 3Y, 11 3Z, 12 ~{G}, 13 4Z, 14 4Y, 15 4A, 16 VCC

## Antenna_PROTO
designator A
pins: 1, 2

## AO3400A
designator Q?
N-Channel 30 V 5.7A (Ta) 1.4W (Ta) Surface Mount SOT-23-3; MF: Alpha & Omega Semiconductor; SnapEDA_Link: https://www.snapeda.com/parts/AO3400A/Alpha/view-part/?ref=snap; Package: SOT-23 Alpha &amp; Omega Semiconductor Inc.; Value: *; MP: AO3400A; Check_prices: https://www.snapeda.com/parts/AO3400A/Alpha/view-part/?ref=eda
footprint SOT95P280X125-3N
pins: 1 G, 2 S, 3 D

## ARDUINO_PRO_MINI
designator U?
This board was developed for applications and installations where space is premium and projects are made as permanent set ups. Small, available in 3.3 V and 5 V versions, powered by ATmega328P.; MF: Arduino; MP: Arduino Pro Mini; SnapEDA_Link: https://www.snapeda.com/parts/Arduino%20Pro%20Mini/Arduino/view-part/?ref=snap; Package: None; Value: *; Check_prices: https://www.snapeda.com/parts/Arduino%20Pro%20Mini/Arduino/view-part/?ref=eda
footprint MODULE_ARDUINO_PRO_MINI
pins: JP1_1 DTR (in), JP1_2 TXO (io), JP1_3 RXI (io), JP1_4 VCC (power), JP1_5 GND (power), JP1_6 GND (power), JP2_1 A4 (io), JP2_2 A5 (io), JP3_1 A6 (in), JP3_2 A7 (in), JP6_1 RAW (power), JP6_2 GND_1 (power), JP6_3 RST_1 (in), JP6_4 VCC_1 (power), JP6_5 A3 (io), JP6_6 A2 (io), JP6_7 A1 (io), JP6_8 A0 (io), JP6_9 SCK (io), JP6_10 MISO (io), JP6_11 MOSI (io), JP6_12 D10 (io), JP7_1 D9 (io), JP7_2 D8 (io), JP7_3 D7 (io), JP7_4 D6 (io), JP7_5 D5 (io), JP7_6 D4 (io), JP7_7 D3 (io), JP7_8 D2 (io), JP7_9 GND_2 (power), JP7_10 RST_2 (in), JP7_11 RXI_2 (io), JP7_12 TXO_2 (io)

## AS-16.000-16-SMD-TR
designator Y?
AS-16.000-16-SMD-TR; MF: Abracon LLC; Package: None; Value: *; Check_prices: https://www.snapeda.com/parts/ABLS-8.000MHZ-B4-T/Abracon+LLC/view-part/?ref=eda; Purchase-URL: https://pricing.snapeda.com/search/part/ABLS-8.000MHZ-B4-T/?ref=eda; MP: AS-16.000-16-SMD-TR; SnapEDA_Link: https://www.snapeda.com/parts/ABLS-8.000MHZ-B4-T/Abracon+LLC/view-part/?ref=snap
footprint XTAL_ABLS-8.000MHZ-B4-T
pins: 1, 2

## ATMEGA328P-AU
designator U?
AVR AVRÂ® ATmega Microcontroller IC 8-Bit 20MHz 32KB (16K x 16) FLASH 32-TQFP (7x7); MF: Microchip Technology; MP: ATMEGA328P-AU; SnapEDA_Link: https://www.snapeda.com/parts/ATMEGA328P-AU/Microchip/view-part/?ref=snap; Package: TQFP-32 Microchip; Value: *; Check_prices: https://www.snapeda.com/parts/ATMEGA328P-AU/Microchip/view-part/?ref=eda
footprint QFP80P900X900X120-32N
pins: 1 PD3 (io), 2 PD4 (io), 3 GND (power), 4 VCC (power), 5 GND (power), 6 VCC (power), 7 PB6(XTAL1/TOSC1) (io), 8 PB7 (io), 9 PD5 (io), 10 PD6 (io), 11 PD7 (io), 12 PB0 (io), 13 PB1 (io), 14 PB2 (io), 15 PB3 (io), 16 PB4 (io), 17 PB5 (io), 18 AVCC (power), 19 ADC6 (io), 20 AREF (in), 21 GND (power), 22 ADC7 (io), 23 PC0 (io), 24 PC1 (io), 25 PC2 (io), 26 PC3 (io), 27 PC4 (io), 28 PC5 (io), 29 PC6/~{RESET} (io), 30 PD0 (io), 31 PD1 (io), 32 PD2 (io)

## ATMEGA328P-AU_1
designator U?
AVR AVRÂ® ATmega Microcontroller IC 8-Bit 20MHz 32KB (16K x 16) FLASH 32-TQFP (7x7); MF: Microchip Technology; MP: ATMEGA328P-AU; SnapEDA_Link: https://www.snapeda.com/parts/ATMEGA328P-AU/Microchip/view-part/?ref=snap; Package: TQFP-32 Microchip; Value: *; Check_prices: https://www.snapeda.com/parts/ATMEGA328P-AU/Microchip/view-part/?ref=eda
footprint QFP80P900X900X120-32N
pins: 1 PD3 (io), 2 PD4 (io), 3 GND (power), 4 VCC (power), 5 GND (power), 6 VCC (power), 7 PB6(XTAL1/TOSC1) (io), 8 PB7 (io), 9 PD5 (io), 10 PD6 (io), 11 PD7 (io), 12 PB0 (io), 13 PB1 (io), 14 PB2 (io), 15 PB3 (io), 16 PB4 (io), 17 PB5 (io), 18 AVCC (power), 19 ADC6 (io), 20 AREF (in), 21 GND (power), 22 ADC7 (io), 23 PC0 (io), 24 PC1 (io), 25 PC2 (io), 26 PC3 (io), 27 PC4 (io), 28 PC5 (io), 29 PC6/~{RESET} (io), 30 PD0 (io), 31 PD1 (io), 32 PD2 (io)

## AYZ0102AGRLC
designator SW?
Miniature slide switch, SPDT, Right-Angle, ON-ON, 12V, 100mA; Manufacturer: C&K; Part number IPS: 00000002488; Part number NEMS: 101500120; Note: N.A.; Pad Count: 3; Component Status: Active; Part Number: AYZ0102AGRLC; Manufacturer Part Number: AYZ0102AGRLC; ComponentLink1URL: https://www.ckswitches.com/media/1431/ayz.pdf; ComponentLink1Description: Datasheet; ComponentLink2URL: N.A.; ComponentLink2Description: Supplier link; Footprint Doc: AYZ0102AGRLC; LatestRevisionDate: 2019-05-08; Published: 2019-05-08; Value: AYZ0102AGRLC; Artikkelnr Noca: N.A.; Supplier 1: Digi-Key; Supplier Part Number 1: 401-2012-1-ND; Supplier 2: N.A.; Supplier Part Number 2: N.A.; HelpURL: https://www.ckswitches.com/media/1431/ayz.pdf; Author: rsk; Component Class: Switches; PartId: 101500120; Part number Norautron: N.A.
footprint AYZ0102AGRLC
pins: 1 N.C, 2 COM, 3 N.O

## AYZ0102AGRLC_1
designator SW?, comment AYZ0102AGRLC
Miniature slide switch, SPDT, Right-Angle, ON-ON, 12V, 100mA; Manufacturer: C&K; Part number IPS: 00000002488; Part number NEMS: 101500120; Note: N.A.; Pad Count: 3; Component Status: Active; Part Number: AYZ0102AGRLC; Manufacturer Part Number: AYZ0102AGRLC; ComponentLink1URL: https://www.ckswitches.com/media/1431/ayz.pdf; ComponentLink1Description: Datasheet; ComponentLink2URL: N.A.; ComponentLink2Description: Supplier link; Footprint Doc: AYZ0102AGRLC; LatestRevisionDate: 2019-05-08; Published: 2019-05-08; Value: AYZ0102AGRLC; Artikkelnr Noca: N.A.; Supplier 1: Digi-Key; Supplier Part Number 1: 401-2012-1-ND; Supplier 2: N.A.; Supplier Part Number 2: N.A.; HelpURL: https://www.ckswitches.com/media/1431/ayz.pdf; Author: rsk; Component Class: Switches; PartId: 101500120; Part number Norautron: N.A.
footprint AYZ0102AGRLC
pins: 1 N.C, 2 COM, 3 N.O

## B2B-PH-K-S__LF__SN_
designator HY?
Circulator or Directional Coupler; Manufacturer_Name: JST (JAPAN SOLDERLESS TERMINALS); Manufacturer_Part_Number: B2B-PH-K-S (LF)(SN); Datasheet Link: http://www.jst-mfg.com/product/pdf/eng/ePH.pdf; Height: 6mm
footprint B2BPHKSLFSN
pins: 1, 2

## B2B-XH-A
designator J?
MF: {'manufacturer': u'JST Sales America Inc.'}; MP: B2B-XH-A; Package: None; Price: None; Value: *; Availability: Unavailable
footprint JST_B2B-XH-A
pins: 1, 2

## B3B-PH-K-S
designator J?
MF: {'manufacturer': u'JST Sales America Inc.'}; MP: B3B-PH-K-S; Package: None; Price: None; Value: *; Availability: Unavailable
footprint JST_B3B-PH-K-S
pins: 1, 2, 3

## B3B-XH-A
designator J?
Connector Header Through Hole 3 position 0.098 (2.50mm); MF: JST Sales; MP: B3B-XH-A; SnapEDA_Link: https://www.snapeda.com/parts/B3B-XH-A/JST+Sales+America+Inc./view-part/?ref=snap; Package: None; Value: *; Check_prices: https://www.snapeda.com/parts/B3B-XH-A/JST+Sales+America+Inc./view-part/?ref=eda
footprint JST_B3B-XH-A
pins: 1, 2, 3

## B4B-XH-A
designator J?
MF: {'manufacturer': u'JST Sales America Inc.'}; MP: B4B-XH-A; Package: None; Price: None; Value: *; Availability: Unavailable
footprint JST_B4B-XH-A
pins: 1, 2, 3, 4

## B8B-XH-A
designator J?
Connector Header Through Hole 8 position 0.098 (2.50mm); MF: JST; MP: B8B-XH-A; SnapEDA_Link: https://www.snapeda.com/parts/B8B-XH-A/JST/view-part/?ref=snap; Package: None; Value: *; Check_prices: https://www.snapeda.com/parts/B8B-XH-A/JST/view-part/?ref=eda
footprint JST_B8B-XH-A
pins: 1, 2, 3, 4, 5, 6, 7, 8

## B340A-E3_61T
designator D?
Diode; Manufacturer_Name: Vishay; Manufacturer_Part_Number: B340A-E3/61T; Datasheet Link: https://ms.componentsearchengine.com/Datasheets/2/B340A-E3_61T.pdf; Height: 2.29mm; Mouser Part Number: 625-BD340A-E3/61T; Mouser Price/Stock: https://www.mouser.co.uk/ProductDetail/Vishay-General-Semiconductor/B340A-E3-61T?qs=tdXsjSi%2FIMY4I2dGLbnpzg%3D%3D; Arrow Part Number: B340A-E3/61T; Arrow Price/Stock: https://www.arrow.com/en/products/b340a-e361t/vishay?region=nac
footprint DIOM5127X229N
pins: 1 K, 2 A

## BAT54
designator D?, comment BAT54-7-F
Manufacturer: Diodes Inc.; Manufacturer Part Number: BAT54-7-F; LCSC: C106920
footprint SOT-23
pins: 1, 3

## BAT54_1
designator D?, comment BAT54
Schottky Diodes & Rectifiers SOT23.0.2A 30V Schot tky; Geometry.Height: 1.1mm; Manufacturer_Part_Number: BAT54; Mouser Part Number: 583-BAT54; Mouser Price/Stock: https://www.mouser.co.uk/ProductDetail/Rectron/BAT54?qs=7pEAo90IqNGfz6H44jcxUA%3D%3D; Arrow Part Number: BAT54; Arrow Price/Stock: https://www.arrow.com/en/products/bat54/rectron?utm_currency=USD&region=nac; Datasheet Link: https://www.rectron.com/data_sheets/bat54.pdf; LCSC: C545546
footprint SOT95P240X110-3N
pins: 1 A, 2 K, 3 NC

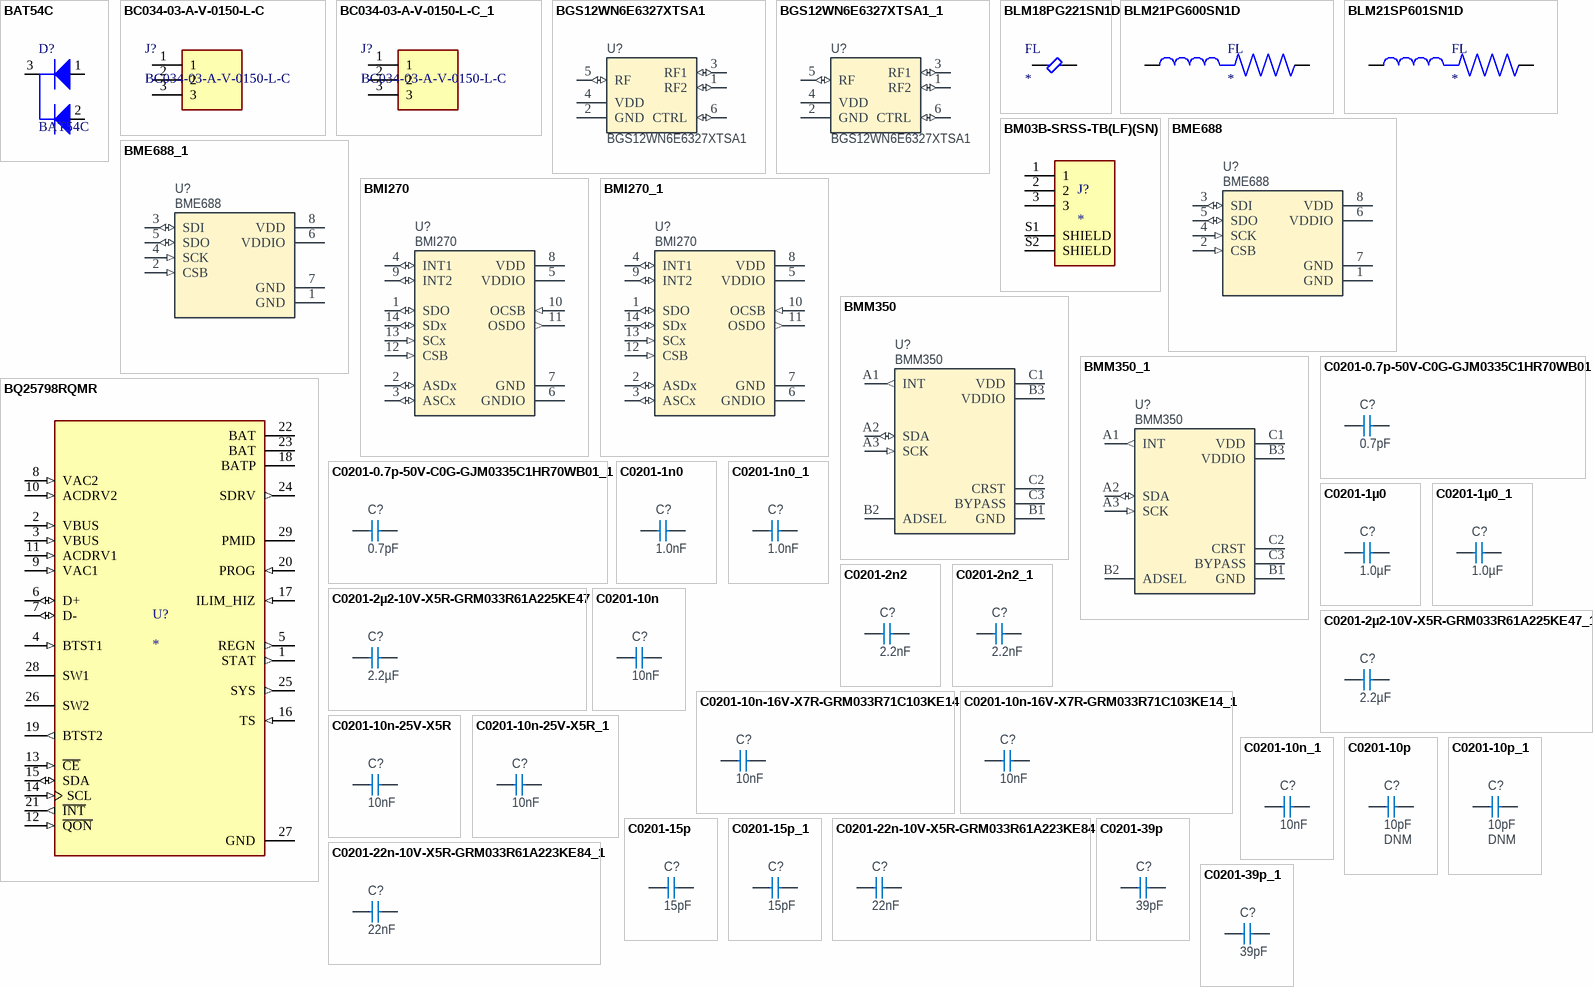
[diagram p2: symbols BAT54C to C0201-39p_1]

## BAT54C
designator D?
MPN: BAT54CTA; LCSC: C460164
footprint SOT-23
pins: 1, 2, 3

## BC034-03-A-V-0150-L-C
designator J?
Connector Header Surface Mount, Right Angle 3 position 0.039" (1.00mm); Manufacturer_Name: GCT (GLOBAL CONNECTOR TECHNOLOGY); Datasheet Link: https://www.enrgtech.co.uk/product/rectangular-connectors-headers-male-pins/ET20300807/BC034-03-A-V-0150-L-C; Height: 1.65mm; Manufacturer_Part_Number: BC034-03-A-V-0150-L-C; Mouser Part Number: 640-BC03403AV0150LC; Mouser Price/Stock: https://www.mouser.co.uk/ProductDetail/GCT/BC034-03-A-V-0150-L-C?qs=KUoIvG%2F9IlZyIzsUtGv%2F4w%3D%3D
footprint BC03403AV0150LC
pins: 1, 2, 3

## BC034-03-A-V-0150-L-C_1
designator J?, comment BC034-03-A-V-0150-L-C
Connector Header Surface Mount, Right Angle 3 position 0.039" (1.00mm); Manufacturer_Name: GCT (GLOBAL CONNECTOR TECHNOLOGY); Datasheet Link: https://www.enrgtech.co.uk/product/rectangular-connectors-headers-male-pins/ET20300807/BC034-03-A-V-0150-L-C; Height: 1.65mm; Manufacturer_Part_Number: BC034-03-A-V-0150-L-C; Mouser Part Number: 640-BC03403AV0150LC; Mouser Price/Stock: https://www.mouser.co.uk/ProductDetail/GCT/BC034-03-A-V-0150-L-C?qs=KUoIvG%2F9IlZyIzsUtGv%2F4w%3D%3D
footprint BC03403AV0150LC
pins: 1, 2, 3

## BGS12WN6E6327XTSA1
designator U?, comment value BGS12WN6E6327XTSA1  (hidden comment: BGS12xN6)
Wideband SPDT RF Switch, 50MHz-6GHz. Max 26dBm, 1.65-3.6V; Manufacturer: Infineon Technologies; Part number NEMS: 101900784; Component Status: Active; Pad Count: 6; Note: N.A.; Part Number: BGS12WN6E6327XTSA1; Component Class: Misc_ICs; Author: getr; Manufacturer Part Number: BGS12WN6E6327XTSA1; ComponentLink1URL: https://www.infineon.com/dgdl/Infineon-BGS12WN6-DataSheet-v01_00-EN.pdf?fileId=5546d4626b2d8e69016b89d2b3334727; ComponentLink1Description: Datasheet; ComponentLink2URL: https://www.digikey.no/en/products/detail/infineon-technologies/BGS12WN6E6327XTSA1/11500249?s=N4IgTCBcDaIEIHEDKBGMB1AcgNgKLYGYwB2ADQBUkBBFEAXQF8g; ComponentLink2Description: Supplier link; HelpURL: https://www.infineon.com/cms/en/product/rf/rf-switches-spxt-dpxt/bgs12wn6/; LatestRevisionDate: 2023-06-26; Published: 2023-06-26; Footprint Doc: TSNP-6-8; Supplier 1: Digi-Key; Supplier Part Number 1: 448-BGS12WN6E6327XTSA1CT-ND; Supplier 2: N.A.; Supplier Part Number 2: N.A.; Artikkelnr Noca: N.A.; Part number IPS: N.A.; Part number Norautron: N.A.; PartId: 101900784
footprint TSNP-6-8
pins: 1 RF2 (io), 2 GND (power), 3 RF1 (io), 4 VDD (power), 5 RF (io), 6 CTRL (io), 8 NC hidden

## BGS12WN6E6327XTSA1_1
designator U?, comment value BGS12WN6E6327XTSA1  (hidden comment: BGS12xN6)
Wideband SPDT RF Switch, 50MHz-6GHz. Max 26dBm, 1.65-3.6V; Manufacturer: Infineon Technologies; Part number NEMS: 101900784; Component Status: Active; Pad Count: 6; Note: N.A.; Part Number: BGS12WN6E6327XTSA1; Component Class: Misc_ICs; Author: getr; Manufacturer Part Number: BGS12WN6E6327XTSA1; ComponentLink1URL: https://www.infineon.com/dgdl/Infineon-BGS12WN6-DataSheet-v01_00-EN.pdf?fileId=5546d4626b2d8e69016b89d2b3334727; ComponentLink1Description: Datasheet; ComponentLink2URL: https://www.digikey.no/en/products/detail/infineon-technologies/BGS12WN6E6327XTSA1/11500249?s=N4IgTCBcDaIEIHEDKBGMB1AcgNgKLYGYwB2ADQBUkBBFEAXQF8g; ComponentLink2Description: Supplier link; HelpURL: https://www.infineon.com/cms/en/product/rf/rf-switches-spxt-dpxt/bgs12wn6/; LatestRevisionDate: 2023-06-26; Published: 2023-06-26; Footprint Doc: TSNP-6-8; Supplier 1: Digi-Key; Supplier Part Number 1: 448-BGS12WN6E6327XTSA1CT-ND; Supplier 2: N.A.; Supplier Part Number 2: N.A.; Artikkelnr Noca: N.A.; Part number IPS: N.A.; Part number Norautron: N.A.; PartId: 101900784
footprint TSNP-6-8
pins: 1 RF2 (io), 2 GND (power), 3 RF1 (io), 4 VDD (power), 5 RF (io), 6 CTRL (io), 8 NC hidden

## BLM18PG221SN1D
designator FL
220 Ohms @ 100 MHz 1 Power Line Ferrite Bead 0603 (1608 Metric) 1.4A 100mOhm; MP: BLM18PG221SN1D; MF: Murata; Value: *; Availability: Unavailable; SnapEDA_Link: https://www.snapeda.com/parts/BLM18PG221SN1D/Murata/view-part/236838/?ref=snap; Price: None; Package: 1608 Murata
footprint BEADC1608X95N
pins: 1, 2

## BLM21PG600SN1D
designator FL
60 Ohms @ 100MHz 1 Power Line Ferrite Bead 0805 _2012 Metric_ 3.5A 20mOhm; MF: Murata; MP: BLM21PG600SN1D; SnapEDA_Link: https://www.snapeda.com/parts/BLM21PG600SN1D/Murata/view-part/234786/?ref=snap; Package: 2012 Murata; Digi-Key_Purchase_URL: https://www.digikey.com/product-detail/en/murata-electronics/BLM21PG600SN1D/490-1053-1-ND/584500?utm_source=snapeda&utm_medium=aggregator&utm_campaign=symbol; Value: *; Digi-Key_Part_Number: 490-1053-1-ND
footprint BEADC2012X105N
pins: 1, 2

## BLM21SP601SN1D
designator FL
600 Ohms @ 100MHz 1 Power Line Ferrite Bead 0805 _2012 Metric_ 2.3A; MP: BLM21SP601SN1D; MF: Murata Electronics North America; Availability: Unavailable; SnapEDA_Link: https://www.snapeda.com/parts/BLM21SP601SN1D/Murata/view-part/3660838/?ref=snap; Package: 2012 Murata; Value: *; Price: None
footprint BEADC2012X105N
pins: 1, 2

## BM03B-SRSS-TB(LF)(SN)
designator J?
Connector Header Surface Mount 3 position 0.039 (1.00mm); MF: JST Sales; MP: BM03B-SRSS-TB(LF)(SN); SnapEDA_Link: https://www.snapeda.com/parts/BM03B-SRSS-TB(LF)(SN)/JST/view-part/?ref=snap; Package: None; Value: *; Check_prices: https://www.snapeda.com/parts/BM03B-SRSS-TB(LF)(SN)/JST/view-part/?ref=eda
footprint JST_BM03B-SRSS-TB(LF)(SN)
pins: 1, 2, 3, S1 SHIELD, S2 SHIELD

## BME688
designator U?
Low power gas, pressure, temperature & humidity sensor; Manufacturer: Bosch; Part number NEMS: 101900619; Note: N.A.; Component Status: Active; Pad Count: 8; Part Number: BME688; Manufacturer Part Number: BME688; Footprint Doc: LGA-8; LatestRevisionDate: 2020-07-07; Published: 2020-07-07; Value: BME688; Artikkelnr Noca: N.A.; Part number IPS: N.A.; ComponentLink1URL: https://ae-bst.resource.bosch.com/media/_tech/media/datasheets/BST-BME680-DS001-00.pdf; ComponentLink1Description: Datasheet; ComponentLink2Description: Supplier link; HelpURL: N.A.; Supplier 1: Digi-Key; Supplier Part Number 1: N.A.; Supplier 2: N.A.; Supplier Part Number 2: N.A.; PartId: 101900619; Component Class: Misc_ICs; Author: rsk; ComponentLink2URL: N.A.; Part number Norautron: N.A.
footprint BME680
pins: 1 GND (power), 2 CSB (in), 3 SDI (io), 4 SCK (in), 5 SDO (io), 6 VDDIO (power) "1.2V - 3.6V", 7 GND (power), 8 VDD (power) "1.71V - 3.6V"

## BME688_1
designator U?, comment BME688
Low power gas, pressure, temperature & humidity sensor; Manufacturer: Bosch; Part number NEMS: 101900619; Note: N.A.; Component Status: Active; Pad Count: 8; Part Number: BME688; Manufacturer Part Number: BME688; Footprint Doc: LGA-8; LatestRevisionDate: 2020-07-07; Published: 2020-07-07; Value: BME688; Artikkelnr Noca: N.A.; Part number IPS: N.A.; ComponentLink1URL: https://ae-bst.resource.bosch.com/media/_tech/media/datasheets/BST-BME680-DS001-00.pdf; ComponentLink1Description: Datasheet; ComponentLink2Description: Supplier link; HelpURL: N.A.; Supplier 1: Digi-Key; Supplier Part Number 1: N.A.; Supplier 2: N.A.; Supplier Part Number 2: N.A.; PartId: 101900619; Component Class: Misc_ICs; Author: rsk; ComponentLink2URL: N.A.; Part number Norautron: N.A.
footprint BME680
pins: 1 GND (power), 2 CSB (in), 3 SDI (io), 4 SCK (in), 5 SDO (io), 6 VDDIO (power) "1.2V - 3.6V", 7 GND (power), 8 VDD (power) "1.71V - 3.6V"

## BMI270
designator U?
6-axis, smart, low-power, inertial measurement unit; Manufacturer: Bosch; Part number NEMS: 101900620; Note: N.A.; Pad Count: 14; Component Status: Active; Part Number: BMI270; Manufacturer Part Number: BMI270; ComponentLink1URL: https://www.bosch-sensortec.com/media/boschsensortec/downloads/datasheets/bst-bmi270-ds000.pdf; ComponentLink1Description: Datasheet; ComponentLink2URL: https://www.bosch-sensortec.com/products/motion-sensors/imus/bmi270.html; ComponentLink2Description: Supplier link; HelpURL: https://www.bosch-sensortec.com/media/boschsensortec/downloads/datasheets/bst-bmi270-ds000.pdf; Footprint Doc: LGA-14; LatestRevisionDate: 2021-08-03; Published: 2020-07-07; Value: BMI270; Supplier 1: Digi-Key; Supplier Part Number 1: 828-1091-1-ND; Supplier 2: Mouser; Supplier Part Number 2: 262-BMI270; Artikkelnr Noca: N.A.; Part number IPS: N.A.; Component Class: Misc_ICs; PartId: 101900620; Author: rsk; Part number Norautron: N.A.
footprint BMI270
pins: 1 SDO (io), 2 ASDx (io), 3 ASCx (io), 4 INT1 (io), 5 VDDIO (power), 6 GNDIO (power), 7 GND (power), 8 VDD (power), 9 INT2 (io), 10 OCSB (in), 11 OSDO (out), 12 CSB (in), 13 SCx (in), 14 SDx (io)

## BMI270_1
designator U?, comment BMI270
6-axis, smart, low-power, inertial measurement unit; Manufacturer: Bosch; Part number NEMS: 101900620; Note: N.A.; Pad Count: 14; Component Status: Active; Part Number: BMI270; Manufacturer Part Number: BMI270; ComponentLink1URL: https://www.bosch-sensortec.com/media/boschsensortec/downloads/datasheets/bst-bmi270-ds000.pdf; ComponentLink1Description: Datasheet; ComponentLink2URL: https://www.bosch-sensortec.com/products/motion-sensors/imus/bmi270.html; ComponentLink2Description: Supplier link; HelpURL: https://www.bosch-sensortec.com/media/boschsensortec/downloads/datasheets/bst-bmi270-ds000.pdf; Footprint Doc: LGA-14; LatestRevisionDate: 2021-08-03; Published: 2020-07-07; Value: BMI270; Supplier 1: Digi-Key; Supplier Part Number 1: 828-1091-1-ND; Supplier 2: Mouser; Supplier Part Number 2: 262-BMI270; Artikkelnr Noca: N.A.; Part number IPS: N.A.; Component Class: Misc_ICs; PartId: 101900620; Author: rsk; Part number Norautron: N.A.
footprint BMI270
pins: 1 SDO (io), 2 ASDx (io), 3 ASCx (io), 4 INT1 (io), 5 VDDIO (power), 6 GNDIO (power), 7 GND (power), 8 VDD (power), 9 INT2 (io), 10 OCSB (in), 11 OSDO (out), 12 CSB (in), 13 SCx (in), 14 SDx (io)